# Altium schematic symbol library modules.SchLib: 12 symbols
Pins are listed as number, name and electrical type; pins without a type are passive.

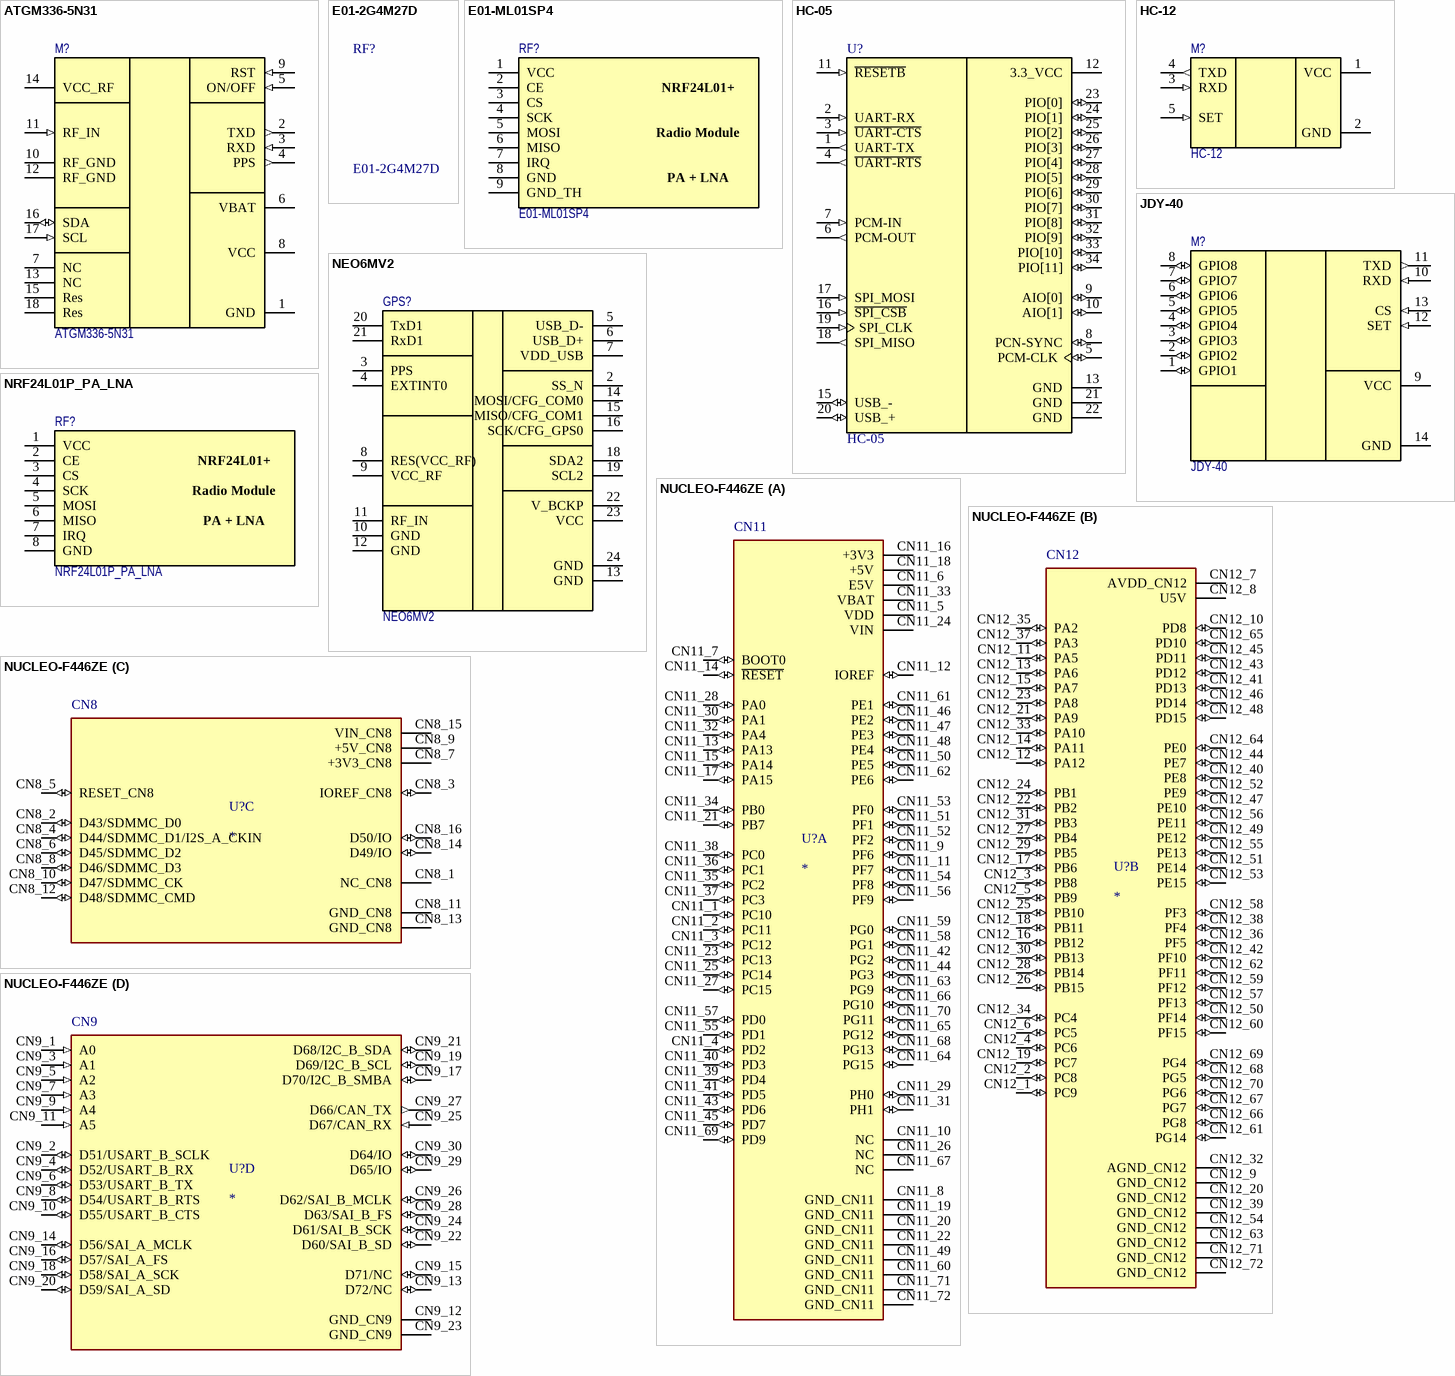
[diagram p0: symbols ATGM336-5N31 to NUCLEO-F446ZE]

## ATGM336-5N31
designator M?
GNSS
footprint ATGM336 (PQFN, 18-Leads, Body 9,70x10,10mm, Pitch 1,10mm, IPC Low Density)
pins: 1 GND (power), 2 TXD (out), 3 RXD (in), 4 PPS (out), 5 ON/OFF (in), 6 VBAT (power), 7 NC, 8 VCC (power), 9 RST (in), 10 RF_GND (power), 11 RF_IN (in), 12 RF_GND (power), 13 NC, 14 VCC_RF (power), 15 Res, 16 SDA (io), 17 SCL (in), 18 Res

## E01-2G4M27D
designator RF?

## E01-ML01SP4
designator RF?
RF
footprint E01_ML01SP4
pins: 1 VCC, 2 CE, 3 CS, 4 SCK, 5 MOSI, 6 MISO, 7 IRQ, 8 GND, 9 GND_TH
text: NRF24L01+; Radio Module; PA + LNA

## HC-05
designator U?
Bluetooth to Serial Port Module; MF: Bel Power solution; Value: *; Availability: Unavailable; Price: None; SnapEDA_Link: https://www.snapeda.com/parts/HC-05/Bel%20Power%20Solutions/view-part/106410/?ref=snap; Check_prices: https://www.snapeda.com/parts/HC-05/Bel%20Power%20Solutions/view-part/106410/?ref=eda; Package: SOIC-14; MP: HC-05
footprint HC-05
pins: 1 UART-TX (out), 2 UART-RX (in), 3 ~{UART-CTS} (in), 4 ~{UART-RTS} (out), 5 PCM-CLK (io), 6 PCM-OUT (out), 7 PCM-IN (in), 8 PCN-SYNC (io), 9 AIO[0] (io), 10 AIO[1] (io), 11 ~{RESETB} (in), 12 3.3_VCC (power), 13 GND (power), 15 USB_- (io), 16 ~{SPI_CSB} (in), 17 SPI_MOSI (in), 18 SPI_MISO (out), 19 SPI_CLK (in), 20 USB_+ (io), 21 GND (power), 22 GND (power), 23 PIO[0] (io), 24 PIO[1] (io), 25 PIO[2] (io), 26 PIO[3] (io), 27 PIO[4] (io), 28 PIO[5] (io), 29 PIO[6] (io), 30 PIO[7] (io), 31 PIO[8] (io), 32 PIO[9] (io), 33 PIO[10] (io), 34 PIO[11] (io)

## HC-12
designator M?
RF
footprint HC-12
pins: 1 VCC (power), 2 GND (power), 3 RXD (in), 4 TXD (out), 5 SET (in)

## JDY-40
designator M?
RF
footprint JDY-40
pins: 1 GPIO1 (io), 2 GPIO2 (io), 3 GPIO3 (io), 4 GPIO4 (io), 5 GPIO5 (io), 6 GPIO6 (io), 7 GPIO7 (io), 8 GPIO8 (io), 9 VCC (power), 10 RXD (in), 11 TXD (out), 12 SET (in), 13 CS (in), 14 GND (power)

## NEO6MV2
designator GPS?
GNSS
footprint NEO-6M
pins: 2 SS_N, 3 PPS, 4 EXTINT0, 5 USB_D-, 6 USB_D+, 7 VDD_USB, 8 RES(VCC_RF), 9 VCC_RF, 10 GND, 11 RF_IN, 12 GND, 13 GND, 14 MOSI/CFG_COM0, 15 MISO/CFG_COM1, 16 SCK/CFG_GPS0, 18 SDA2, 19 SCL2, 20 TxD1, 21 RxD1, 22 V_BCKP, 23 VCC, 24 GND

## NRF24L01P_PA_LNA
designator RF?
RF
footprint NRF24L01P+PA+LNA
pins: 1 VCC, 2 CE, 3 CS, 4 SCK, 5 MOSI, 6 MISO, 7 IRQ, 8 GND
text: NRF24L01+; Radio Module; PA + LNA

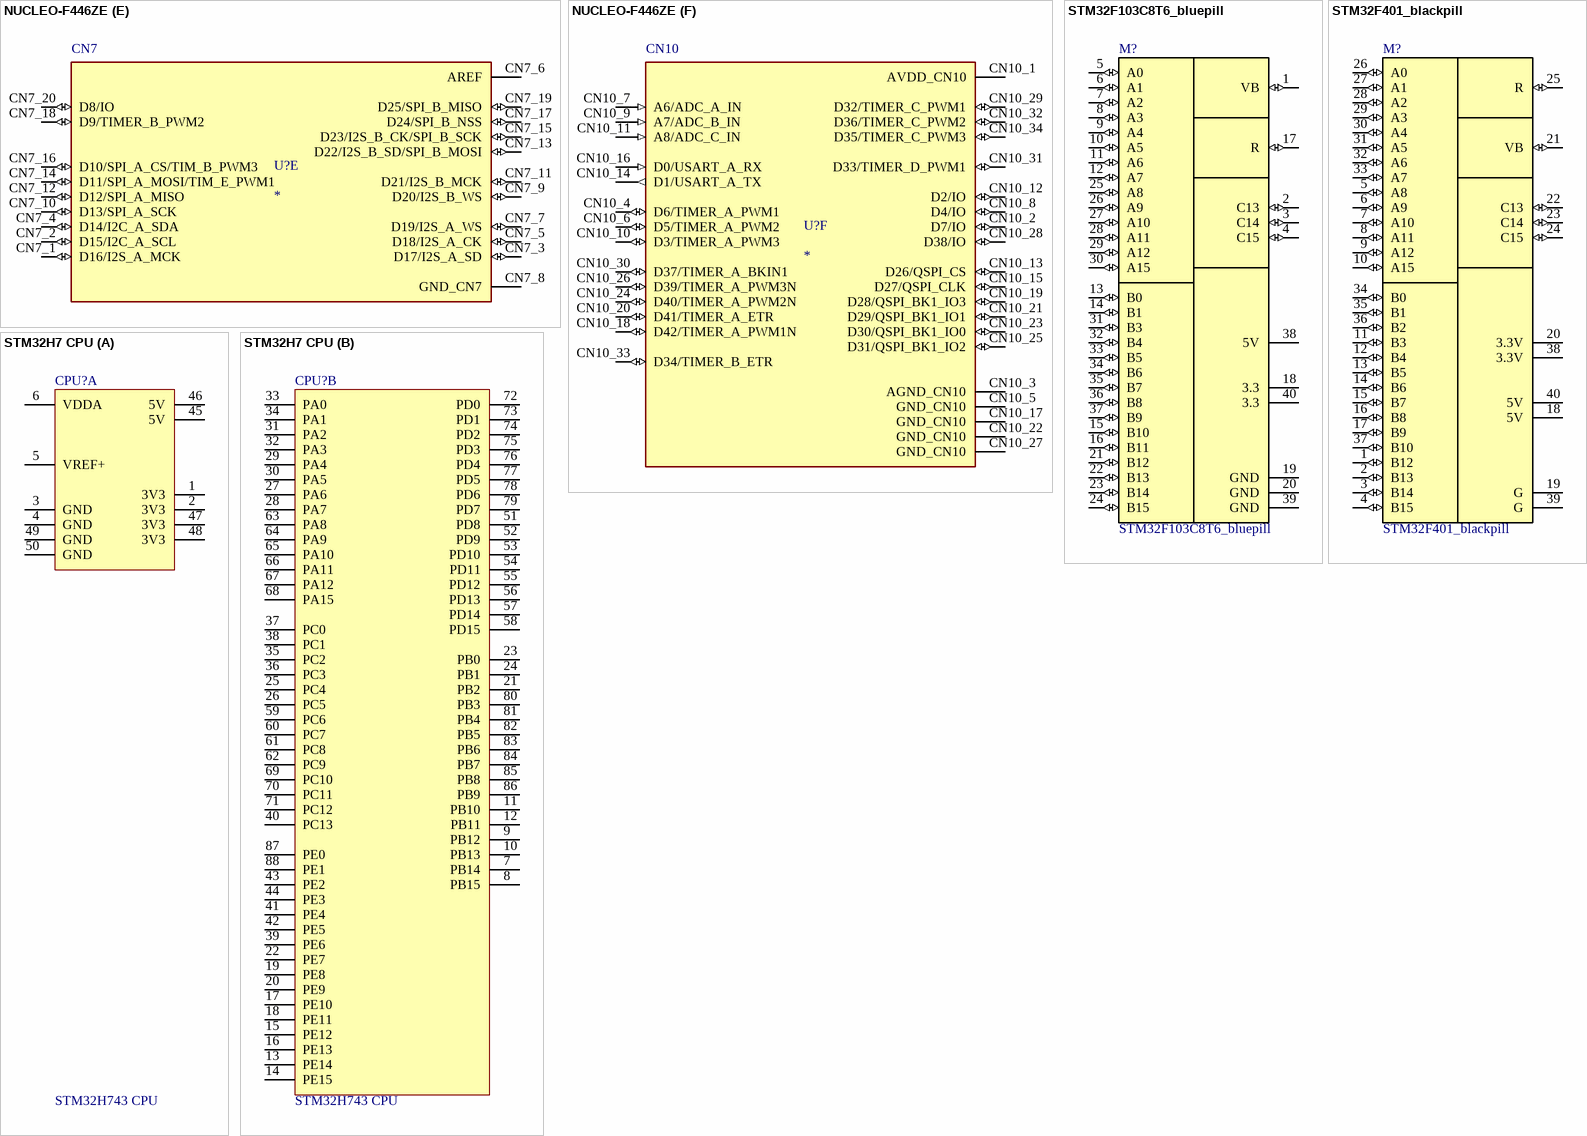
[diagram p1: symbols NUCLEO-F446ZE to STM32H7 CPU]

## NUCLEO-F446ZE
designator U?
STM32F446ZE, mbed-Enabled Development Nucleo-144 STM32F4 ARMÂ® CortexÂ®-M4 MCU 32-Bit Embedded Evaluation Board; MP: NUCLEO-F446ZE; MF: STMicroelectronics; Value: *; Check_prices: https://www.snapeda.com/parts/NUCLEO-F446ZE/STMicroelectronics/view-part/?ref=eda; Package: None; Price: None; Availability: In Stock; Purchase-URL: https://pricing.snapeda.com/search/part/NUCLEO-F446ZE/?ref=eda; SnapEDA_Link: https://www.snapeda.com/parts/NUCLEO-F446ZE/STMicroelectronics/view-part/?ref=snap
footprint MODULE_NUCLEO-F446ZE
part A pins: CN11_1 PC10 (io), CN11_2 PC11 (io), CN11_3 PC12 (io), CN11_4 PD2 (io), CN11_5 VDD (power), CN11_6 E5V (power), CN11_7 BOOT0 (io), CN11_8 GND_CN11 (power), CN11_9 PF6 (io), CN11_10 NC, CN11_11 PF7 (io), CN11_12 IOREF (io), CN11_13 PA13 (io), CN11_14 ~{RESET} (io), CN11_15 PA14 (io), CN11_16 +3V3 (power), CN11_17 PA15 (io), CN11_18 +5V (power), CN11_19 GND_CN11 (power), CN11_20 GND_CN11 (power), CN11_21 PB7 (io), CN11_22 GND_CN11 (power), CN11_23 PC13 (io), CN11_24 VIN (power), CN11_25 PC14 (io), CN11_26 NC, CN11_27 PC15 (io), CN11_28 PA0 (io), CN11_29 PH0 (io), CN11_30 PA1 (io), CN11_31 PH1 (io), CN11_32 PA4 (io), CN11_33 VBAT (power), CN11_34 PB0 (io), CN11_35 PC2 (io), CN11_36 PC1 (io), CN11_37 PC3 (io), CN11_38 PC0 (io), CN11_39 PD4 (io), CN11_40 PD3 (io), CN11_41 PD5 (io), CN11_42 PG2 (io), CN11_43 PD6 (io), CN11_44 PG3 (io), CN11_45 PD7 (io), CN11_46 PE2 (io), CN11_47 PE3 (io), CN11_48 PE4 (io), CN11_49 GND_CN11 (power), CN11_50 PE5 (io), CN11_51 PF1 (io), CN11_52 PF2 (io), CN11_53 PF0 (io), CN11_54 PF8 (io), CN11_55 PD1 (io), CN11_56 PF9 (io), CN11_57 PD0 (io), CN11_58 PG1 (io), CN11_59 PG0 (io), CN11_60 GND_CN11 (power), CN11_61 PE1 (io), CN11_62 PE6 (io), CN11_63 PG9 (io), CN11_64 PG15 (io), CN11_65 PG12 (io), CN11_66 PG10 (io), CN11_67 NC, CN11_68 PG13 (io), CN11_69 PD9 (io), CN11_70 PG11 (io), CN11_71 GND_CN11 (power), CN11_72 GND_CN11 (power)
part B pins: CN12_1 PC9 (io), CN12_2 PC8 (io), CN12_3 PB8 (io), CN12_4 PC6 (io), CN12_5 PB9 (io), CN12_6 PC5 (io), CN12_7 AVDD_CN12 (power), CN12_8 U5V (power), CN12_9 GND_CN12 (power), CN12_10 PD8 (io), CN12_11 PA5 (io), CN12_12 PA12 (io), CN12_13 PA6 (io), CN12_14 PA11 (io), CN12_15 PA7 (io), CN12_16 PB12 (io), CN12_17 PB6 (io), CN12_18 PB11 (io), CN12_19 PC7 (io), CN12_20 GND_CN12 (power), CN12_21 PA9 (io), CN12_22 PB2 (io), CN12_23 PA8 (io), CN12_24 PB1 (io), CN12_25 PB10 (io), CN12_26 PB15 (io), CN12_27 PB4 (io), CN12_28 PB14 (io), CN12_29 PB5 (io), CN12_30 PB13 (io), CN12_31 PB3 (io), CN12_32 AGND_CN12 (power), CN12_33 PA10 (io), CN12_34 PC4 (io), CN12_35 PA2 (io), CN12_36 PF5 (io), CN12_37 PA3 (io), CN12_38 PF4 (io), CN12_39 GND_CN12 (power), CN12_40 PE8 (io), CN12_41 PD13 (io), CN12_42 PF10 (io), CN12_43 PD12 (io), CN12_44 PE7 (io), CN12_45 PD11 (io), CN12_46 PD14 (io), CN12_47 PE10 (io), CN12_48 PD15 (io), CN12_49 PE12 (io), CN12_50 PF14 (io), CN12_51 PE14 (io), CN12_52 PE9 (io), CN12_53 PE15 (io), CN12_54 GND_CN12 (power), CN12_55 PE13 (io), CN12_56 PE11 (io), CN12_57 PF13 (io), CN12_58 PF3 (io), CN12_59 PF12 (io), CN12_60 PF15 (io), CN12_61 PG14 (io), CN12_62 PF11 (io), CN12_63 GND_CN12 (power), CN12_64 PE0 (io), CN12_65 PD10 (io), CN12_66 PG8 (io), CN12_67 PG7 (io), CN12_68 PG5 (io), CN12_69 PG4 (io), CN12_70 PG6 (io), CN12_71 GND_CN12 (power), CN12_72 GND_CN12 (power)
part C pins: CN8_1 NC_CN8, CN8_2 D43/SDMMC_D0 (io), CN8_3 IOREF_CN8 (io), CN8_4 D44/SDMMC_D1/I2S_A_CKIN (io), CN8_5 RESET_CN8 (io), CN8_6 D45/SDMMC_D2 (io), CN8_7 +3V3_CN8 (power), CN8_8 D46/SDMMC_D3 (io), CN8_9 +5V_CN8 (power), CN8_10 D47/SDMMC_CK (io), CN8_11 GND_CN8 (power), CN8_12 D48/SDMMC_CMD (io), CN8_13 GND_CN8 (power), CN8_14 D49/IO (io), CN8_15 VIN_CN8 (power), CN8_16 D50/IO (io)
part D pins: CN9_1 A0 (in), CN9_2 D51/USART_B_SCLK (io), CN9_3 A1 (in), CN9_4 D52/USART_B_RX (io), CN9_5 A2 (in), CN9_6 D53/USART_B_TX (io), CN9_7 A3 (in), CN9_8 D54/USART_B_RTS (io), CN9_9 A4 (in), CN9_10 D55/USART_B_CTS (io), CN9_11 A5 (in), CN9_12 GND_CN9 (power), CN9_13 D72/NC (io), CN9_14 D56/SAI_A_MCLK (io), CN9_15 D71/NC (io), CN9_16 D57/SAI_A_FS (io), CN9_17 D70/I2C_B_SMBA (io), CN9_18 D58/SAI_A_SCK (io), CN9_19 D69/I2C_B_SCL (io), CN9_20 D59/SAI_A_SD (io), CN9_21 D68/I2C_B_SDA (io), CN9_22 D60/SAI_B_SD (io), CN9_23 GND_CN9 (power), CN9_24 D61/SAI_B_SCK (io), CN9_25 D67/CAN_RX (in), CN9_26 D62/SAI_B_MCLK (io), CN9_27 D66/CAN_TX (out), CN9_28 D63/SAI_B_FS (io), CN9_29 D65/IO (io), CN9_30 D64/IO (io)
part E pins: CN7_1 D16/I2S_A_MCK (io), CN7_2 D15/I2C_A_SCL (io), CN7_3 D17/I2S_A_SD (io), CN7_4 D14/I2C_A_SDA (io), CN7_5 D18/I2S_A_CK (io), CN7_6 AREF (power), CN7_7 D19/I2S_A_WS (io), CN7_8 GND_CN7 (power), CN7_9 D20/I2S_B_WS (io), CN7_10 D13/SPI_A_SCK (io), CN7_11 D21/I2S_B_MCK (io), CN7_12 D12/SPI_A_MISO (io), CN7_13 D22/I2S_B_SD/SPI_B_MOSI (io), CN7_14 D11/SPI_A_MOSI/TIM_E_PWM1 (io), CN7_15 D23/I2S_B_CK/SPI_B_SCK (io), CN7_16 D10/SPI_A_CS/TIM_B_PWM3 (io), CN7_17 D24/SPI_B_NSS (io), CN7_18 D9/TIMER_B_PWM2 (io), CN7_19 D25/SPI_B_MISO (io), CN7_20 D8/IO (io)
part F pins: CN10_1 AVDD_CN10 (power), CN10_2 D7/IO (io), CN10_3 AGND_CN10 (power), CN10_4 D6/TIMER_A_PWM1 (io), CN10_5 GND_CN10 (power), CN10_6 D5/TIMER_A_PWM2 (io), CN10_7 A6/ADC_A_IN (in), CN10_8 D4/IO (io), CN10_9 A7/ADC_B_IN (in), CN10_10 D3/TIMER_A_PWM3 (io), CN10_11 A8/ADC_C_IN (in), CN10_12 D2/IO (io), CN10_13 D26/QSPI_CS (io), CN10_14 D1/USART_A_TX (out), CN10_15 D27/QSPI_CLK (io), CN10_16 D0/USART_A_RX (in), CN10_17 GND_CN10 (power), CN10_18 D42/TIMER_A_PWM1N (io), CN10_19 D28/QSPI_BK1_IO3 (io), CN10_20 D41/TIMER_A_ETR (io), CN10_21 D29/QSPI_BK1_IO1 (io), CN10_22 GND_CN10 (power), CN10_23 D30/QSPI_BK1_IO0 (io), CN10_24 D40/TIMER_A_PWM2N (io), CN10_25 D31/QSPI_BK1_IO2 (io), CN10_26 D39/TIMER_A_PWM3N (io), CN10_27 GND_CN10 (power), CN10_28 D38/IO (io), CN10_29 D32/TIMER_C_PWM1 (io), CN10_30 D37/TIMER_A_BKIN1 (io), CN10_31 D33/TIMER_D_PWM1 (io), CN10_32 D36/TIMER_C_PWM2 (io), CN10_33 D34/TIMER_B_ETR (io), CN10_34 D35/TIMER_C_PWM3 (io)
part A text: CN11
part B text: CN12
part C text: CN8
part D text: CN9
part E text: CN7
part F text: CN10

## STM32F103C8T6_bluepill
designator M?
STM32F103C8T6 blu-pill module
footprint STM32F103_BLUEPILL
pins: 1 VB (io), 2 C13 (io), 3 C14 (io), 4 C15 (io), 5 A0 (io), 6 A1 (io), 7 A2 (io), 8 A3 (io), 9 A4 (io), 10 A5 (io), 11 A6 (io), 12 A7 (io), 13 B0 (io), 14 B1 (io), 15 B10 (io), 16 B11 (io), 17 R (io), 18 3.3 (power), 19 GND (power), 20 GND (power), 21 B12 (io), 22 B13 (io), 23 B14 (io), 24 B15 (io), 25 A8 (io), 26 A9 (io), 27 A10 (io), 28 A11 (io), 29 A12 (io), 30 A15 (io), 31 B3 (io), 32 B4 (io), 33 B5 (io), 34 B6 (io), 35 B7 (io), 36 B8 (io), 37 B9 (io), 38 5V (power), 39 GND (power), 40 3.3 (power)

## STM32F401_blackpill
designator M?
STM32F401 blackpill module
footprint STM32F401_blackpill
pins: 1 B12 (io), 2 B13 (io), 3 B14 (io), 4 B15 (io), 5 A8 (io), 6 A9 (io), 7 A10 (io), 8 A11 (io), 9 A12 (io), 10 A15 (io), 11 B3 (io), 12 B4 (io), 13 B5 (io), 14 B6 (io), 15 B7 (io), 16 B8 (io), 17 B9 (io), 18 5V (power), 19 G (power), 20 3.3V (power), 21 VB (io), 22 C13 (io), 23 C14 (io), 24 C15 (io), 25 R (io), 26 A0 (io), 27 A1 (io), 28 A2 (io), 29 A3 (io), 30 A4 (io), 31 A5 (io), 32 A6 (io), 33 A7 (io), 34 B0 (io), 35 B1 (io), 36 B2 (io), 37 B10 (io), 38 3.3V (power), 39 G (power), 40 5V (power)

## STM32H7 CPU
designator CPU?, comment STM32H743 CPU
STM32H743 processor module
footprint STM32H7_CPU
part A pins: 1 3V3, 2 3V3, 3 GND, 4 GND, 5 VREF+, 6 VDDA, 45 5V, 46 5V, 47 3V3, 48 3V3, 49 GND, 50 GND
part B pins: 7 PB14, 8 PB15, 9 PB12, 10 PB13, 11 PB10, 12 PB11, 13 PE14, 14 PE15, 15 PE12, 16 PE13, 17 PE10, 18 PE11, 19 PE8, 20 PE9, 21 PB2, 22 PE7, 23 PB0, 24 PB1, 25 PC4, 26 PC5, 27 PA6, 28 PA7, 29 PA4, 30 PA5, 31 PA2, 32 PA3, 33 PA0, 34 PA1, 35 PC2, 36 PC3, 37 PC0, 38 PC1, 39 PE6, 40 PC13, 41 PE4, 42 PE5, 43 PE2, 44 PE3, 51 PD8, 52 PD9, 53 PD10, 54 PD11, 55 PD12, 56 PD13, 57 PD14, 58 PD15, 59 PC6, 60 PC7, 61 PC8, 62 PC9, 63 PA8, 64 PA9, 65 PA10, 66 PA11, 67 PA12, 68 PA15, 69 PC10, 70 PC11, 71 PC12, 72 PD0, 73 PD1, 74 PD2, 75 PD3, 76 PD4, 77 PD5, 78 PD6, 79 PD7, 80 PB3, 81 PB4, 82 PB5, 83 PB6, 84 PB7, 85 PB8, 86 PB9, 87 PE0, 88 PE1